# Altium footprint library отечественные.PcbLib: 10 footprints
Each footprint in its own frame and in the unit in brackets; x right, y up, seen from the top. Pads: shape width x height; smd on the part's side, far side on the other; paste and mask are expansions set on the pad; w line width, h text height; cw(c..) or ccw(c..) is an arc to the next point about the centre after c.
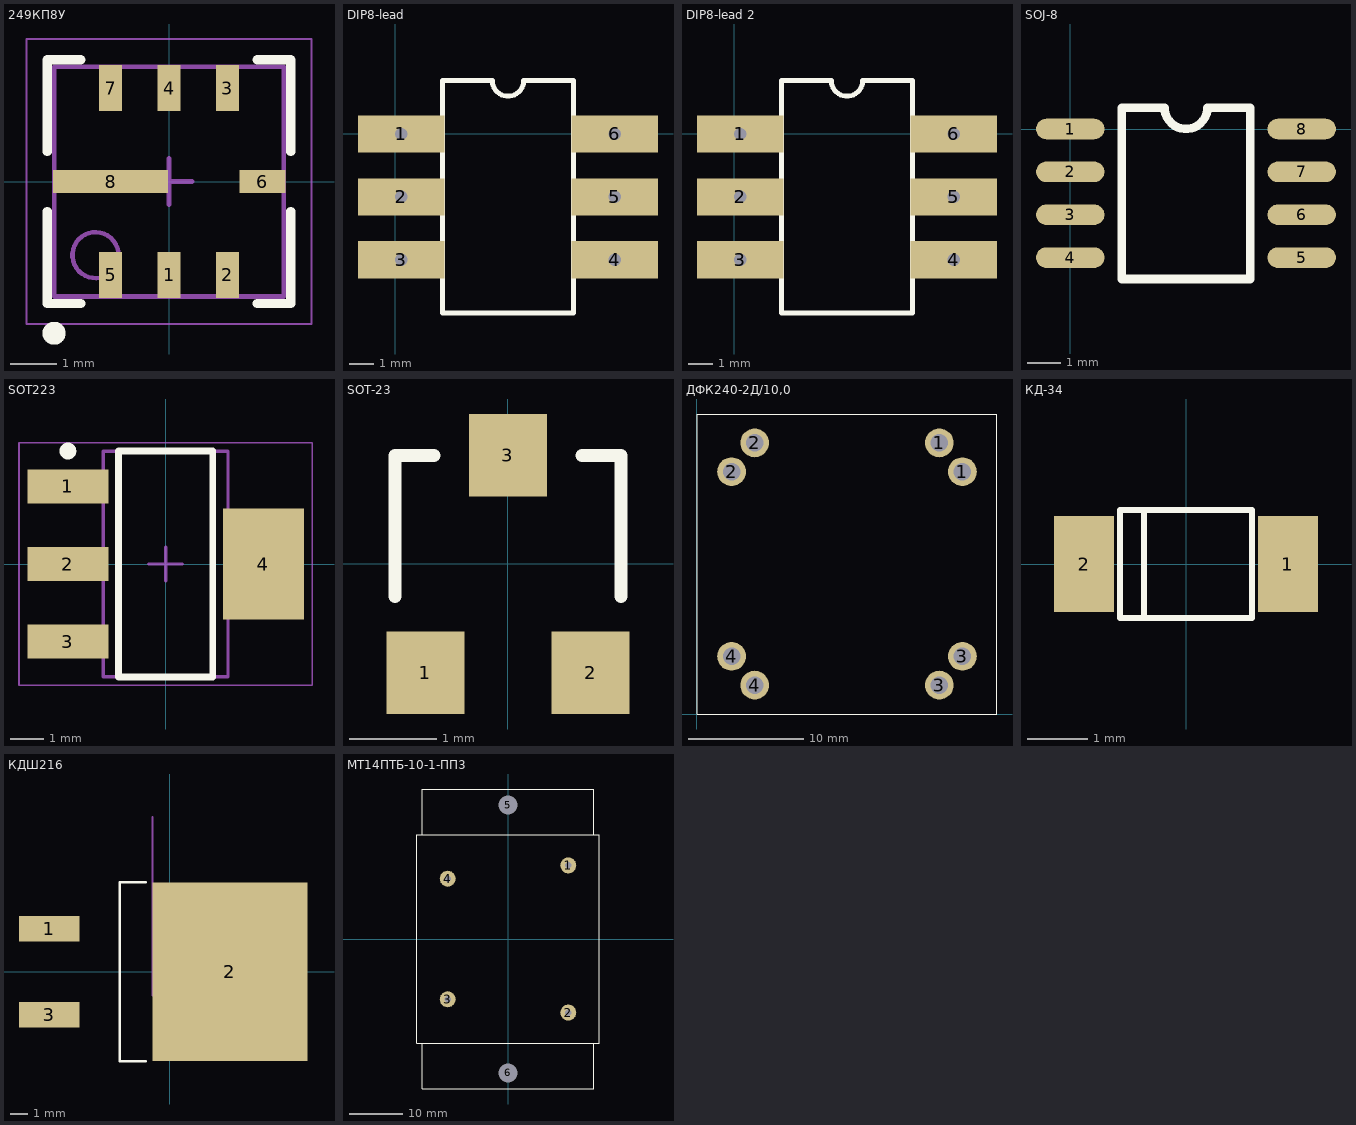
[diagram p0: the footprints below, top view; thin cyan lines are the x and y axes]

## 249КП8У [mm] "QFN, 8-Leads, Body 5,00x5,00mm, Pitch 1,27mm, Thermal Pad 4,00x2,20mm, IPC Medium Density"
height 1
pads (8):
  rect 0.5x1 smd: 1(0,-2.032) 2(1.27,-2.032) 3(1.27,2.032) 4(0,2.032) 5(-1.27,-2.032) 7(-1.27,2.032)
  rect 1x0.5 smd: 6(2.032,0)
  rect 2.5x0.5 smd: 8(-1.27,0)
Top Overlay:
  circle w0.25: c-2.5,-3.3 r0.125
  lines w0.2: -2.65,-0.65 -2.65,-2.65 -1.92,-2.65 ; -2.65,0.65 -2.65,2.65 -1.92,2.65 ; 1.92,-2.65 2.65,-2.65 2.65,-0.65 ; 1.92,2.65 2.65,2.65 2.65,0.65
Mechanical 13:
  circle w0.1: c-1.6,-1.6 r0.5
  lines w0.1: -2.5,-2.5 2.5,-2.5 2.5,2.5 -2.5,2.5 -2.5,-2.5
Mechanical 15:
  lines w0.05: -3.1,-3.1 3.1,-3.1 3.1,3.1 -3.1,3.1 -3.1,-3.1
  lines w0.1: -0.5,0 0.5,0 ; 0,-0.5 0,0.5
3D body: height 1, standoff 0.01, extent -2.5,-2.5 2.5,2.5

## DIP8-lead [mm]
pads (6):
  rect 3.5x1.5 hole 0.5: 1(0.25,0) 2(0.25,-2.54) 3(0.25,-5.08) 4(8.87,-5.08) 5(8.87,-2.54) 6(8.87,0)
Top Overlay:
  lines w0.2: 1.91,-7.24 1.91,2.16 3.925,2.16 ccw(c4.56,2.16) 5.195,2.16 7.21,2.16 7.21,-7.24 1.91,-7.24
3D body: height 2.5, standoff 0, extent 0.75,-7.24 8.5,2.16

## DIP8-lead 2 [mm]
pads (6):
  rect 3.5x1.5 hole 0.5: 1(0.25,0) 2(0.25,-2.54) 3(0.25,-5.08) 4(8.87,-5.08) 5(8.87,-2.54) 6(8.87,0)
Top Overlay:
  lines w0.2: 1.91,-7.24 1.91,2.16 3.925,2.16 ccw(c4.56,2.16) 5.195,2.16 7.21,2.16 7.21,-7.24 1.91,-7.24
3D body: height 2.5, standoff 0, extent 0.75,-7.24 8.5,2.16

## SOJ-8 [mil]
pads (8):
  oval 80x24 smd: 1(0,0) 2(0,-50) 3(0,-100) 4(0,-150) 5(270,-150) 6(270,-100) 7(270,-50) 8(270,0)
Top Overlay:
  lines w10: 60,-175 210,-175 210,25 160,25 cw(c135,25) 110,25 60,25 60,-175
3D body: height 74.5, standoff -0.39, extent 10.22,-174 259.78,23

## SOT223 [mm] "SOT223, 4-Leads, Body 6,50x7,00mm (avg), Pitch 2,30mm, IPC Medium Density"
height 1.8
pads (4):
  rect 2.4x1 smd: 1(-2.9,2.3) 2(-2.9,0) 3(-2.9,-2.3)
  rect 2.4x3.3 smd: 4(2.9,0)
Top Overlay:
  circle w0.25: c-2.9,3.35 r0.125
  lines w0.2: -1.4,-3.35 -1.4,3.35 1.4,3.35 1.4,-3.35 -1.4,-3.35
Mechanical 13:
  lines w0.1: -1.85,-3.35 -1.85,3.35 1.85,3.35 1.85,-3.35 -1.85,-3.35
Mechanical 15:
  lines w0.05: -4.35,-3.6 -4.35,3.6 4.35,3.6 4.35,-3.6 -4.35,-3.6
  lines w0.1: -0.5,0 0.5,0 ; 0,-0.5 0,0.5
3D body: height 1.8, standoff 0.02, extent -1.85,-3.35 1.85,3.35

## SOT-23 [mm] "SOT-23; 3 Leads; Body 3.0 x 2.6 mm, inc. leads (LxW max)"
height 1.1
pads (3):
  rect 0.9x0.95 smd: 1(-0.95,-1.25) 2(0.95,-1.25) 3(0,1.25)
Top Overlay:
  lines w0.15: -1.3,-0.375 -1.3,1.25 -0.85,1.25 ; 0.85,1.25 1.3,1.25 1.3,-0.375
3D body: height 1.05, standoff -0.05, extent -1.5,-1.27 1.5,1.23

## ДФК240-2Д/10,0 [mm]
pads (8):
  round 2.5 hole 1.5: 1(21,23.5) 1(23,21) 2(3,21) 2(5,23.5) 3(21,2.5) 3(23,5) 4(3,5) 4(5,2.5)
Top Overlay:
  lines w0.1: 0,0 0,26 26,26 26,0 0,0
3D body: height 12, standoff 0, extent 0,0 26,26
3D body: height 6, standoff 0, extent 4.256,22.752 5.75,24.249
3D body: height 6, standoff 0, extent 2.256,20.252 3.75,21.749
3D body: height 6, standoff 0, extent 2.256,4.252 3.75,5.749
3D body: height 6, standoff 0, extent 4.256,1.752 5.75,3.249
3D body: height 6, standoff 0, extent 20.256,1.752 21.75,3.249
3D body: height 6, standoff 0, extent 22.256,4.252 23.75,5.749
3D body: height 6, standoff 0, extent 22.256,20.252 23.75,21.749
3D body: height 6, standoff 0, extent 20.256,22.752 21.75,24.249

## КД-34 [mm]
pads (2):
  rect 1x1.6 all layers, no hole: 1(1.7,0) 2(-1.7,0)
Top Overlay:
  lines w0.1: -0.7,-0.9 -0.7,0.9 ; -1.1,-0.9 -1.1,0.9 1.1,0.9 1.1,-0.9 -1.1,-0.9
3D body: height 1, standoff 0, extent -1.1,-0.9 1.1,0.9

## КДШ216 [mm] "D2-PAK, 4-Leads, Body 9.2x10.2mm, Pitch 2.54mm, Lead Span 15.4mm, IPC High Density"
height 4.6
pads (3):
  rect 3.5x1.5 smd: 1(-7,2.5) 3(-7,-2.5)
  rect 9x10.35 smd: 2(3.5,0)
Top Overlay:
  lines w0.15: -1.4,-5.2 -2.9,-5.2 -2.9,5.2 -1.4,5.2
Mechanical 13:
  lines w0.1: -1,-1.4 -1,9
3D body: height 4.6, standoff 0, extent -2.9,-5.2 6.5,5.2

## МТ14ПТБ-10-1-ПП3 [mm]
pads (6):
  round 3 hole 1.2: 1(11.25,13.75) 2(11.25,-13.75) 3(-11.25,-11.25) 4(-11.25,11.25)
  round 2.5 hole 3.5: 5(0,25) 6(0,-25)
Top Overlay:
  lines w0.1: -16,-19.5 -16,-28 16,-28 16,-19.5 ; -16,19.5 -16,28 16,28 16,19.5 ; -17,-19.5 -17,19.5 17,19.5 17,-19.5 -17,-19.5
3D body: height 11.8, standoff 10.8, extent -16,19.6 16.1,28
3D body: height 11.8, standoff 10.8, extent -16,-28 16,-19.5
3D body: height 12.5, standoff 0, extent -17,-19.5 17,19.5